# Altium schematic symbol library SN74CB3xxxxx.SchLib: 2 symbols
Pins are listed as number, name and electrical type; pins without a type are passive.

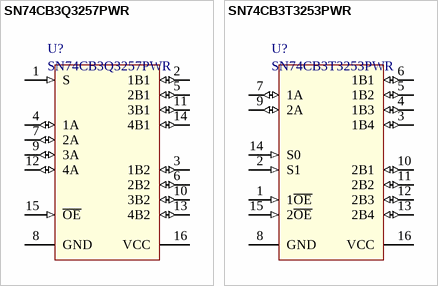
[diagram p0: symbols SN74CB3Q3257PWR to SN74CB3T3253PWR]

## SN74CB3Q3257PWR
designator U?
4-Bit 1-of-2 FET Multiplexer/Demultiplexer 2.5-V/3.3-V Low-Voltage High-Bandwidth Bus Switch; value: SN74CB3Q3257PWR
pins: 1 S (in), 2 1B1 (io), 3 1B2 (io), 4 1A (io), 5 2B1 (io), 6 2B2 (io), 7 2A (io), 8 GND (power), 9 3A (io), 10 3B2 (io), 11 3B1 (io), 12 4A (io), 13 4B2 (io), 14 4B1 (io), 15 ~{OE} (in), 16 VCC (power)

## SN74CB3T3253PWR
designator U?
Dual 1-of-4 FET Mult/Demult 2.5-V/3.3-V Low-Voltage Bus Switch with 5-V Tolerant Level Shifter; value: SN74CB3T3253PWR
pins: 1 1~{OE} (in), 2 S1 (in), 3 1B4 (io), 4 1B3 (io), 5 1B2 (io), 6 1B1 (io), 7 1A (io), 8 GND (power), 9 2A (io), 10 2B1 (io), 11 2B2 (io), 12 2B3 (io), 13 2B4 (io), 14 S0 (in), 15 2~{OE} (in), 16 VCC (power)